# Altium footprint library LF_SFF_AC.PcbLib: 2 footprints
Each footprint in its own frame and in the unit in brackets; x right, y up, seen from the top. Pads: shape width x height; smd on the part's side, far side on the other; paste and mask are expansions set on the pad; w line width, h text height; cw(c..) or ccw(c..) is an arc to the next point about the centre after c.
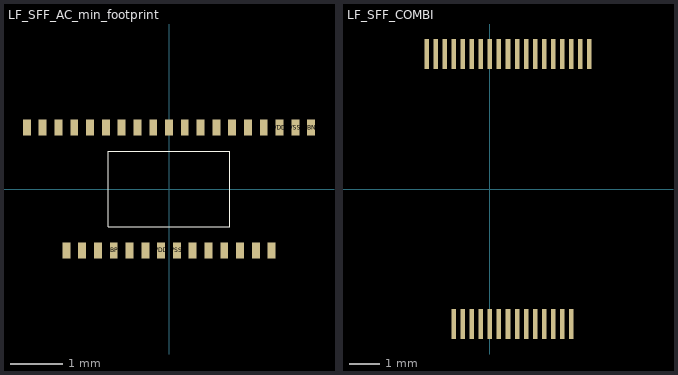
[diagram p0: the footprints below, top view; thin cyan lines are the x and y axes]

## LF_SFF_AC_min_footprint [mm] "Footprint for the LF SFF AC pure chip without further components"
pads (33):
  rect 0.15x0.3 smd mask+0: BACK_BIAS(-1.95,-1.168) DIODE_HV(-1.65,-1.168) IBN(2.7,1.168) IBP(-1.05,-1.168) LOGIC_DNWELL(1.35,-1.168) NWELL_RING(1.95,-1.168) OUT0(-2.7,1.168) OUT1(-2.4,1.168) OUT2(-2.1,1.168) OUT3(-1.8,1.168) OUT4(-1.5,1.168) OUT5(-1.2,1.168) OUT6(-0.9,1.168) OUT7(-0.6,1.168) OUT8(-0.3,1.168) OUT9(0,1.168) OUT10(0.3,1.168) OUT11(0.6,1.168) OUT12(0.9,1.168) OUT13(1.2,1.168) OUT14(1.5,1.168) OUT15(1.8,1.168) PIX_INPUT(-1.35,-1.168) PW_BIAS(1.65,-1.168) RESET(-0.45,-1.168) SEL0(0.45,-1.168) SEL1(0.75,-1.168) SEL2(1.05,-1.168) VDD(-0.15,-1.168) VDD(2.1,1.168) VRESET(-0.75,-1.168) VSS(0.15,-1.168) VSS(2.4,1.168)
Top Overlay:
  lines w0.01: -1.15,-0.717 1.15,-0.717 1.15,0.718 -1.15,0.718 -1.15,-0.717
3D body "LF_SFF.stp": height 0.1, standoff 0, extent -1.148,-0.719 1.152,0.716

## LF_SFF_COMBI [mm]
pads (33):
  rect 0.15x1 smd mask+0: BACK_BIAS(-1.2,-4.481) DIODE_HV(-0.9,-4.481) IBN(3.3,4.481) IBP(-0.3,-4.481) LOGIC_DNWELL(2.1,-4.481) NWELL_RING(2.7,-4.481) OUT0(-2.1,4.481) OUT1(-1.8,4.481) OUT2(-1.5,4.481) OUT3(-1.2,4.481) OUT4(-0.9,4.481) OUT5(-0.6,4.481) OUT6(-0.3,4.481) OUT7(0,4.481) OUT8(0.3,4.481) OUT9(0.6,4.481) OUT10(0.9,4.481) OUT11(1.2,4.481) OUT12(1.5,4.481) OUT13(1.8,4.481) OUT14(2.1,4.481) OUT15(2.4,4.481) PIX_INPUT(-0.6,-4.481) PW_BIAS(2.4,-4.481) RESET(0.3,-4.481) SEL0(1.2,-4.481) SEL1(1.5,-4.481) SEL2(1.8,-4.481) VDD(0.6,-4.481) VDD(2.7,4.481) VRESET(0,-4.481) VSS(0.9,-4.481) VSS(3,4.481)
3D body "LF_SFF_COMBI.step": height 0.3, standoff 0, extent -4.504,-2.889 4.514,2.875